# Altium integrated library MAX-M8Q-0.IntLib: 1 symbol
Pins are listed as number, name and electrical type; pins without a type are passive.

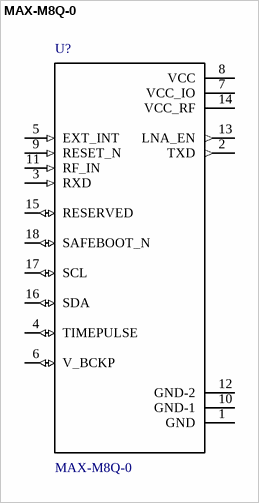
[diagram p0: symbol MAX-M8Q-0]

## MAX-M8Q-0
designator U?
Value: *
footprint *XCVR_MAX-M8C-0-10
pins: 1 GND (power), 2 TXD (out), 3 RXD (in), 4 TIMEPULSE (io), 5 EXT_INT (in), 6 V_BCKP (io), 7 VCC_IO (power), 8 VCC (power), 9 RESET_N (in), 10 GND-1 (power), 11 RF_IN (in), 12 GND-2 (power), 13 LNA_EN (out), 14 VCC_RF (power), 15 RESERVED (io), 16 SDA (io), 17 SCL (io), 18 SAFEBOOT_N (io)